# Altium footprint library Connectors.PcbLib: 66 footprints (part 5 of 5)
Each footprint in its own frame and in the unit in brackets; x right, y up, seen from the top. Pads: shape width x height; smd on the part's side, far side on the other; paste and mask are expansions set on the pad; w line width, h text height; cw(c..) or ccw(c..) is an arc to the next point about the centre after c.
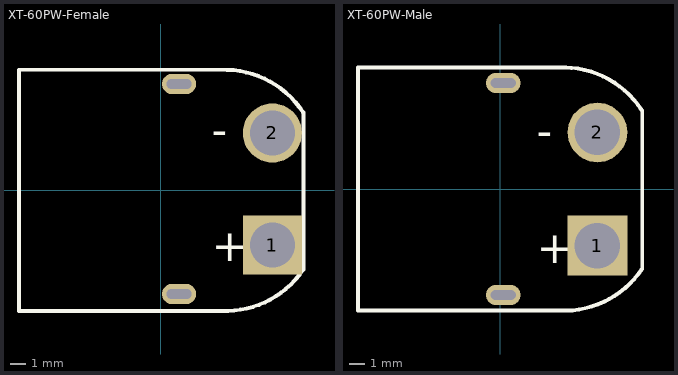
[diagram p4: the footprints below, top view; thin cyan lines are the x and y axes]

## XT-60PW-Female [mm]
pads (4):
  rect 3.8x3.8 hole 2.9 paste-2539.97 mask+0.05: 1(7.184,-3.515)
  round 3.8 hole 2.9 paste-2539.97 mask+0.05: 2(7.184,3.685)
  oval 2.2x1.3 hole 0.6 slot 1.6 at 0 deg paste-2539.97 mask+0.05: ""(1.184,-6.665) ""(1.184,6.835)
Top Overlay:
  lines w0.254: 4.262,7.747 cw(c4.119,1.749) 9.151,5.017 ; 4.325,7.75 -9.103,7.75 -9.103,-7.75 4.325,-7.75 ccw(c4.182,-1.752) 9.156,-5.107 ; 9.179,5.017 9.179,-5.107
  text "-" at 3.295,2.905 h2.03
  text "+" at 3.295,-4.546 h2.03
3D body "XT60PW-F.SLDPRT": height 8.65, standoff -1.45, extent -9.215,-7.665 9.185,7.835

## XT-60PW-Male [mm]
pads (4):
  rect 3.8x3.8 hole 2.9 paste-2539.97 mask+0.05: 1(6.207,-3.6)
  round 3.8 hole 2.9 paste-2539.97 mask+0.05: 2(6.207,3.6)
  oval 2.2x1.3 hole 0.6 slot 1.6 at 0 deg paste-2539.97 mask+0.05: ""(0.207,-6.75) ""(0.207,6.75)
Top Overlay:
  lines w0.254: 4.144,7.747 cw(c4.001,1.749) 9.033,5.017 ; 4.207,7.75 -9.046,7.75 -9.046,-7.75 4.207,-7.75 ccw(c4.064,-1.752) 9.038,-5.107 ; 9.061,-5.107 9.061,5.017
  text "+" at 2.333,-4.715 h2.03
  text "-" at 2.333,2.736 h2.03
3D body "XT60PW-M.SLDPRT": height 8.9, standoff -1.5, extent -9.129,-7.754 9.071,7.746